# Altium footprint library FootPrintLib_6.PcbLib: 588 footprints (part 7 of 37)
Each footprint in its own frame and in the unit in brackets; x right, y up, seen from the top. Pads: shape width x height; smd on the part's side, far side on the other; paste and mask are expansions set on the pad; w line width, h text height; cw(c..) or ccw(c..) is an arc to the next point about the centre after c.
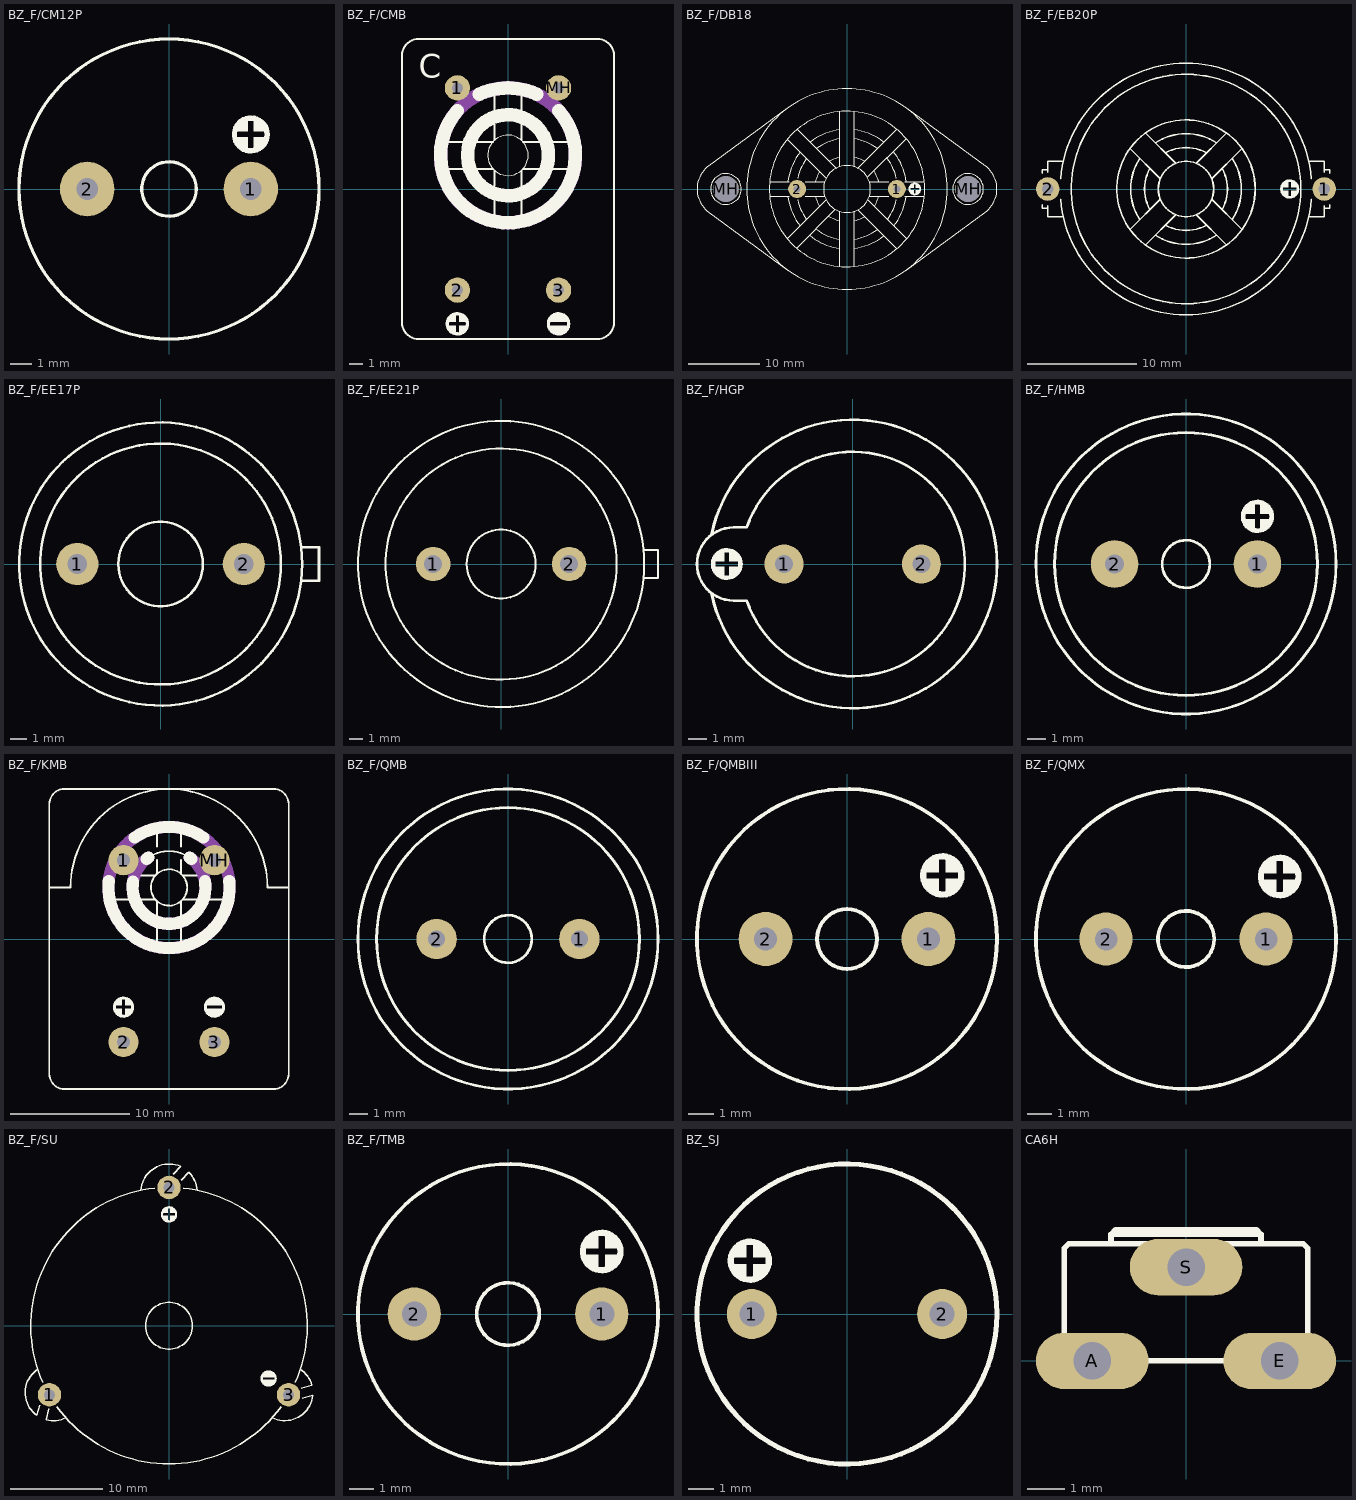
[diagram p6: the footprints below, top view; thin cyan lines are the x and y axes]

## BZ_F/CM12P [mil] "BUZZER  Source: Buerklin"
pads (2):
  round 100 hole 40: 1(150,0) 2(-150,0)
Top Overlay:
  circle w10: c150,100 r30
  circle w6: c0,0 r275
  circle w6: c0,0 r50
  rectangle: 125,105 145,124.84
  rectangle: 155,105 175,124.84
  rectangle: 155,75 175,95
  rectangle: 125,75 145,95

## BZ_F/CMB [mil] "BUZZER  Source: Buerklin"
pads (4):
  round 75 hole 32: 1(-150,300) 2(-150,-300) 3(150,-300) MH(150,300)
Top Overlay:
  circle w0.31: c0,100 r60
  circle w40: c0,100 r120
  circle w10: c-150,-400 r30
  circle w10: c150,-400 r30
  rectangle: -175,-425 -155,-405
  rectangle: -145,-425 -125,-405
  rectangle: -145,-395 -125,-375.16
  rectangle: -175,-395 -155,-375.16
  rectangle: 125,-425 175,-405
  rectangle: 125,-395 175,-375.16
  lines w6: -175.59,60 -134.17,60 ; -175.59,140 -134.17,140 ; -91.65,60 -44.72,60 ; -91.65,140 -44.72,140 ; -40,-75.59 -40,-34.17 ; -40,8.35 -40,55.28 ; -40,144.72 -40,191.65 ; -40,234.17 -40,275.59 ; 40,-75.59 40,-34.17 ; 40,8.35 40,55.28 ; 40,144.72 40,191.65 ; 40,234.17 40,275.59 ; 44.72,60 91.65,60 ; 44.72,140 91.65,140 ; 134.17,60 175.59,60 ; 134.17,140 175.59,140 ; -315,-395 ccw(c-265,-395) -265,-445 265,-445 ccw(c265,-395) 315,-395 315,395 ccw(c265,395) 265,445 -265,445 ccw(c-265,395) -315,395 -315,-395
  lines w40: -150.29,231.96 ccw(c0,100) 150.29,231.96 ; -84.98,281.05 cw(c0,100) 84.98,281.05
  text "C" at -265,330 h70
Mechanical 1:
  circle w40: c0,100 r200

## BZ_F/DB18 [mil] "BUZZER  Source: Buerklin"
pads (4):
  round 100 hole 40: 1(276,0) 2(-276,0)
  round 142 hole 142 unplated: MH(-670,0) MH(670,0)
Top Overlay:
  circle w10: c375,0 r30
  circle w6: c670,0 r85
  circle w6: c-670,0 r85
  circle w6: c0,0 r430
  circle w6: c0,0 r130
  circle w6: c0,0 r555
  rectangle: 350,5 370,24.84
  rectangle: 380,5 400,24.84
  rectangle: 380,-25 400,-5
  rectangle: 350,-25 370,-5
  lines w6: -764.33,129.22 ccw(c-670,-0.02) -764.33,-129.25 -327.21,-448.31 ; -764.33,129.25 -327.21,448.31 ; -428.15,-40 -319.72,-40 ; -428.15,40 -319.72,40 ; -331.02,-274.45 -115.75,-59.17 ; -331.02,274.45 -115.75,59.17 ; -327.57,-40 ccw(c0,0) -259.91,-203.34 ; -327.57,40 cw(c0,0) -259.91,203.34 ; -278.31,-327.8 -63.78,-113.27 ; -274.45,331.02 -59.17,115.75 ; -273.5,-59.98 ccw(c0,0) -224.24,-167.67 ; -273.5,59.98 cw(c0,0) -224.24,167.67 ; -230.28,-40 -123.7,-40 ; -230.28,40 -123.7,40 ; -207.28,-256.78 ccw(c0,0) -40,-327.57 ; -203.34,259.91 cw(c0,0) -40,327.57 ; -175.5,-40 ccw(c0,0) -152.38,-95.81 ; -175.5,40 cw(c0,0) -152.38,95.81 ; -171.69,-221.19 ccw(c0,0) -40,-277.13 ; -167.68,224.24 cw(c0,0) -40,277.13 ; -100.1,-149.6 ccw(c0,0) -40,-175.5 ; -95.81,152.38 cw(c0,0) -40,175.5 ; -40,-428.15 -40,-123.7 ; -40,123.7 -40,428.15 ; 40,-428.15 40,-123.7 ; 40,-327.57 ccw(c0,0) 203.34,-259.91 ; 39.99,-277.13 ccw(c-0.01,0) 167.67,-224.24 ; 40,-175.5 ccw(c0,0) 95.81,-152.38 ; 40,123.7 40,428.15 ; 40,175.5 cw(c0,0) 95.81,152.38 ; 40,277.13 cw(c0,0) 167.67,224.24 ; 40,327.57 cw(c0,0) 203.34,259.91 ; 59.17,-115.75 274.45,-331.02 ; 59.17,115.75 274.45,331.02 ; 113.27,63.78 327.79,278.31 ; 115.75,-59.17 331.02,-274.45 ; 123.7,-40 230.28,-40 ; 123.7,40 230.28,40 ; 149.6,100.1 cw(c0,0) 175.5,40 ; 152.38,-95.81 ccw(c0,0) 175.5,-40 ; 221.19,171.69 cw(c0,0) 273.5,59.98 ; 224.24,-167.67 ccw(c0,0) 273.5,-59.98 ; 256.78,207.28 cw(c0,0) 327.57,40 ; 259.91,-203.34 ccw(c0,0) 327.57,-40 ; 319.72,-40 428.15,-40 ; 319.72,40 428.15,40 ; 327.2,-448.31 764.33,-129.25 ccw(c670,-0.02) 764.33,129.22 ; 327.2,448.31 764.33,129.25

## BZ_F/EB20P [mil] "BUZZER  Source: Buerklin"
pads (2):
  round 85 hole 40: 1(500,0) 2(-500,0)
Top Overlay:
  circle w10: c375,0 r30
  circle w6: c0,0 r250
  circle w6: c0,0 r100
  circle w6: c0,0 r415
  rectangle: 350,5 370,24.84
  rectangle: 380,5 400,24.84
  rectangle: 380,-25 400,-5
  rectangle: 350,-25 370,-5
  lines w6: -520,-56.58 -520,-70 -500,-70 ; -520,56.57 -520,70 -500,70 ; -500,-60 -500,-70 ; -500,60 -500,70 ; -453.42,-37.83 ccw(c0,0) 453.42,-37.83 ; -453.42,37.83 cw(c0,0) 453.42,37.83 ; -443.86,-100 -500,-100 -500,-70 ; -443.86,100 -500,100 -500,70 ; -202.78,-146.22 -93.11,-36.54 ; -202.8,146.22 -93.11,36.54 ; -166.85,-110.28 cw(c0,0) -166.85,110.28 ; -146.22,-202.78 -36.54,-93.11 ; -146.22,202.79 -36.54,93.11 ; -130.51,-73.94 cw(c0,0) -130.51,73.94 ; -110.28,-166.85 ccw(c0,0) 110.28,-166.85 ; -110.28,166.85 cw(c0,0) 110.28,166.85 ; -73.94,-130.51 ccw(c0,0) 73.94,-130.51 ; -73.94,130.51 cw(c0,0) 73.94,130.51 ; 36.54,-93.11 146.22,-202.8 ; 36.54,93.11 146.22,202.78 ; 93.11,-36.54 202.8,-146.22 ; 93.11,36.54 202.78,146.22 ; 130.51,-73.94 ccw(c0,0) 130.51,73.94 ; 166.85,-110.28 ccw(c0,0) 166.85,110.28 ; 443.86,-100 500,-100 500,-70 ; 443.86,100 500,100 500,70 ; 500,-60 500,-70 ; 500,60 500,70 ; 520,-56.58 520,-70 500,-70 ; 520,56.57 520,70 500,70

## BZ_F/EE17P [mil] "BUZZER  Source: Buerklin"
pads (2):
  round 100 hole 47: 1(-197,0) 2(197,0)
Top Overlay:
  circle w6: c0,0 r285
  circle w6: c0,0 r100
  circle w6: c0,0 r335
  lines w6: 332.6,-40 375,-40 375,40 332.6,40

## BZ_F/EE21P [mil] "BUZZER  Source: Buerklin"
pads (2):
  round 100 hole 52: 1(-197,0) 2(197,0)
Top Overlay:
  circle w6: c0,0 r415
  circle w6: c0,0 r100
  circle w6: c0,0 r335
  lines w6: 413.07,-40 455,-40 455,40 413.07,40

## BZ_F/HGP [mil] "BUZZER  Source: Buerklin"
pads (2):
  round 85 hole 40: 1(-150,0) 2(150,0)
Top Overlay:
  circle w10: c-275,0 r30
  rectangle: -300,-25 -280,-5
  rectangle: -270,-25 -250,-5
  rectangle: -270,5 -250,24.84
  rectangle: -300,5 -280,24.84
  lines w6: -308.51,-63.61 ccw(c0,0) -308.51,63.61 ; -260,-80 cw(c-260,0) -260,80 -231.57,80 cw(c0,0) -231.57,-80 -260,-80

## BZ_F/HMB [mil] "BUZZER  Source: Buerklin"
pads (2):
  round 100 hole 40: 1(150,0) 2(-150,0)
Top Overlay:
  circle w10: c150,100 r30
  circle w6: c0,0 r276
  circle w6: c0,0 r315
  circle w6: c0,0 r50
  rectangle: 125,105 145,124.84
  rectangle: 155,105 175,124.84
  rectangle: 155,75 175,95
  rectangle: 125,75 145,95

## BZ_F/KMB [mil] "BUZZER  Source: Buerklin"
pads (4):
  round 100 hole 44: 1(-150,260) 2(-150,-340) 3(150,-340) MH(150,260)
Top Overlay:
  circle w10: c150,-225 r30
  circle w10: c-150,-225 r30
  circle w6: c0,170 r60
  rectangle: 125,-220 175,-200.16
  rectangle: 125,-250 175,-230
  rectangle: -175,-220 -155,-200.16
  rectangle: -145,-220 -125,-200.16
  rectangle: -145,-250 -125,-230
  rectangle: -175,-250 -155,-230
  lines w6: -175.59,130 -134.17,130 ; -91.65,130 -44.72,130 ; -91.65,210 -44.72,210 ; -67.76,269.04 cw(c0,170) 67.76,269.04 ; -40,-5.59 -40,35.83 ; -40,78.35 -40,125.28 ; -40,214.72 -40,261.65 ; -40,304.17 -40,345.59 ; 40,-5.59 40,35.83 ; 40,78.35 40,125.28 ; 40,214.72 40,261.65 ; 40,304.17 40,345.59 ; 44.72,130 91.65,130 ; 44.72,210 91.65,210 ; 134.17,130 175.59,130 ; -395,170 -325,170 cw(c0,170) 325,170 395,170 ; -395,170 -395,-445 ccw(c-345,-445) -345,-495 345,-495 ccw(c345,-445) 395,-445 395,170 ; -395,170 -395,445 cw(c-345,445) -345,495 345,495 cw(c345,445) 395,445 395,170
  lines w40: -198.83,191.61 ccw(c0,170) 198.83,191.61 ; -118.37,189.73 ccw(c0,170) 118.23,190.56 ; -112.94,335.06 cw(c0,170) 112.94,335.06 ; -74.36,264.18 cw(c0,170) -67.76,269.03 ; 67.76,269.03 cw(c0,169.99) 74.36,264.19
Mechanical 1:
  circle w40: c0,170 r200
  lines w40: -67.76,269.04 ccw(c0,170) 67.77,269.04

## BZ_F/QMB [mil] "BUZZER  Source: Buerklin"
pads (2):
  round 85 hole 36: 1(150,0) 2(-150,0)
Top Overlay:
  circle w6: c0,0 r50
  circle w6: c0,0 r315
  circle w6: c0,0 r276

## BZ_F/QMBIII [mil] "BUZZER  Source: Buerklin"
pads (2):
  round 85 hole 36: 1(128,0) 2(-128,0)
Top Overlay:
  circle w10: c150,100 r30
  circle w6: c0,0 r236
  circle w6: c0,0 r47
  rectangle: 125,105 145,124.84
  rectangle: 155,105 175,124.84
  rectangle: 155,75 175,95
  rectangle: 125,75 145,95

## BZ_F/QMX [mil] "BUZZER  Source: Buerklin"
pads (2):
  round 85 hole 36: 1(128,0) 2(-128,0)
Top Overlay:
  circle w10: c150,100 r30
  circle w6: c0,0 r240
  circle w6: c0,0 r45
  rectangle: 125,105 145,124.84
  rectangle: 155,105 175,124.84
  rectangle: 155,75 175,95
  rectangle: 125,75 145,95

## BZ_F/SU [mil] "BUZZER  Source: Spoerle"
pads (3):
  round 100 hole 47: 1(-510,-295) 2(0,590) 3(510,-295)
Top Overlay:
  circle w10: c425,-225 r30
  circle w10: c0,475 r30
  circle w6: c0,0 r100
  rectangle: 400,-220 450,-200.16
  rectangle: 400,-250 450,-230
  rectangle: -25,480 -5,499.84
  rectangle: 5,480 25,499.84
  rectangle: 5,450 25,470
  rectangle: -25,450 -5,470
  lines w6: -560.24,-185.05 ccw(c-493.64,-285) -563.7,-382.56 -551.97,-338.78 ; -538.27,-241.58 cw(c0,0) -59.92,586.95 ; -524.73,-401.02 ccw(c-493.64,-285.01) -440.38,-392.66 ; -524.72,-401.02 -512.4,-355 ; -478.35,-345.37 ccw(c0,0) 478.35,-345.37 ; -119.86,577.7 cw(c0,570) 49.45,679.45 17.4,647.4 ; 51.22,621.22 84.92,654.92 ; 59.92,586.95 cw(c0,0) 538.27,-241.58 ; 84.93,654.93 cw(c0,569.99) 119.86,577.7 ; 440.37,-392.64 ccw(c493.63,-284.99) 613.14,-296.89 569.37,-308.62 ; 560.22,-185.05 cw(c493.63,-285) 609.64,-253.91 563.62,-266.26

## BZ_F/TMB [mil] "BUZZER  Source: Buerklin"
pads (2):
  round 85 hole 40: 1(150,0) 2(-150,0)
Top Overlay:
  circle w10: c150,100 r30
  circle w6: c0,0 r50
  circle w6: c0,0 r240
  rectangle: 125,105 145,124.84
  rectangle: 155,105 175,124.84
  rectangle: 155,75 175,95
  rectangle: 125,75 145,95

## BZ_SJ [mm] "Buzzer From Old SJ Library"
pads (2):
  round 2 hole 1: 1(-3.81,0) 2(3.81,0)
Top Overlay:
  circle w0.2: c0,0 r6
  circle w0.254: c-3.886,2.134 r0.762
  rectangle: -4.521,1.499 -4.013,2.007
  rectangle: -3.759,1.499 -3.251,2.007
  rectangle: -3.759,2.261 -3.251,2.765
  rectangle: -4.521,2.261 -4.013,2.765
3D body "buzzer.stp": height 9.5, standoff -5.5, extent -5.825,-6.005 6.172,5.994

## CA6H [mil]
pads (3):
  oval 120x60 hole 40: A(-100,0) E(100,0) S(0,100)
Top Overlay:
  lines w6: -80,125 -80,135 ; -80,125 -125,125 -130,120 -130,50 -130,5 -125,0 -45,0 45,0 125,0 130,5 130,50 130,120 125,125 80,125 ; -80,125 -55,125 55,125 80,125 ; -80,135 -75,140 -40,140 40,140 75,140 80,135 ; -80,135 -45,135 45,135 80,135 ; 80,125 80,135